# EAGLE library part 691318700006 (library Terminal_Blocks_Connectors_rev15e)
WR-TBL Serie 3187 - 5.0mm Close Vertical PCB Header with Flanges, 6 Pins=>Code : Con_TBL_Pluggable_5.00_PCB_V_691318700006 <http://katalog.we-online.de/media/images/eican/Con_TBL_Pluggable_5.00_PCB_V_6913187000xx_pf2.jpg> Details see: http://katalog.we-online.de/en/em/691_318_700_0xx Created 2014-06-19, Karrer Zheng 2014 (C) Würth Elektronik
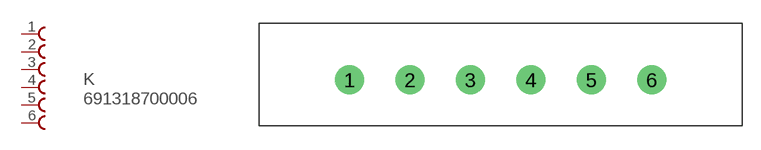
[diagram p64: symbol with the pads of 691318700006; footprint 691318700006]

Designator prefix K

## 691318700006  [691318700006]
1  1  pas
2  2  pas
3  3  pas
4  4  pas
5  5  pas
6  6  pas

## Footprint 691318700006 (pad centres in mm)
WR-TBL Serie 3187 - 5.0mm Close Vertical PCB Header with Flanges, 8 Pins
drill 1.6: 1 -5,0; 2 0,0; 3 5,0; 4 10,0; 5 15,0; 6 20,0